# Altium schematic symbol library VHF_AMP_lib.SchLib: 7 symbols
Pins are listed as number, name and electrical type; pins without a type are passive.

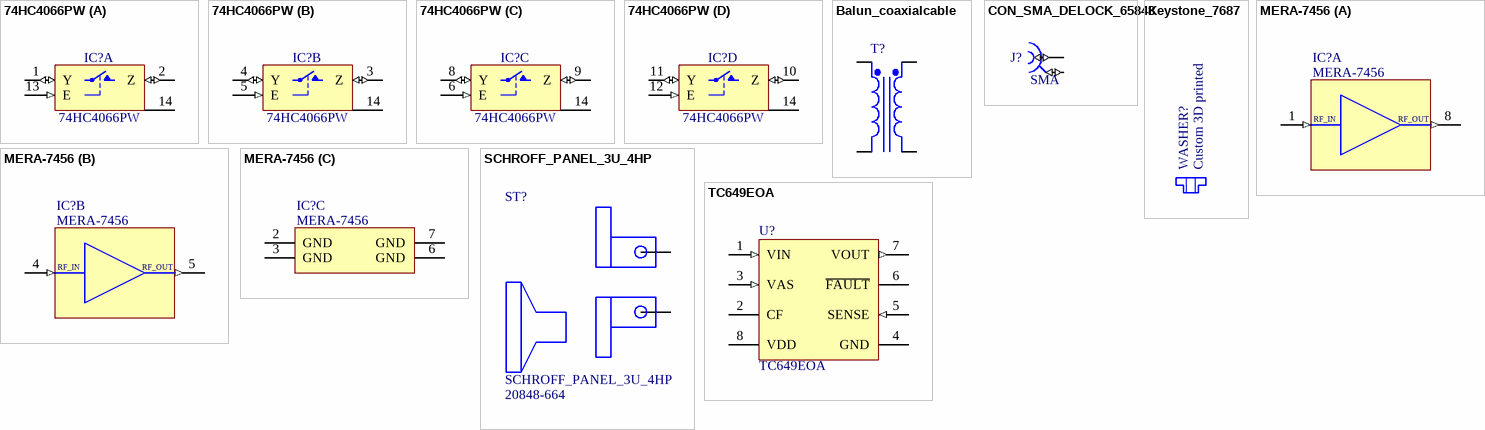
[diagram p0: symbols 74HC4066PW to TC649EOA]

## 74HC4066PW
designator IC?
Part Description: Quad Single-Pole Single-Throw Analog Switch; Manufacturer: NXP SEMICONDUCTORS; PressFit: No; Bonding: No; Part Number: 74HC4066PW; Component Kind: Standard; Component Type: Standard; Device: 74HC4066PW; Footprint: SOP65P640X110-14N; PackageDescription: SOP, 14-Leads, Body 4.4x5mm (max), Pitch 0.65mm, IPC Medium Density; Manufacturer Part Number: 74HC4066PW; Pin Count: 14; Case: TSSOP14; Mounted: Yes; Socket: No; SMD: Yes; Sense: No; ComponentHeight: 1.1mm; Author: CERN DEM JLC; HelpURL: \\cern.ch\dfs\Applications\Altium\Datasheets\74HC4066PW.pdf; CreateDate: 19.11.2014; LatestRevisionDate: 19.11.2014
footprint SOP65P640X110-14N (SOP, 14-Leads, Body 4.4x5mm (max), Pitch 0.65mm, IPC Medium Density)
pins on every part: 7 GND (power) hidden to GND, 14 VCC (power)
part A pins: 1 Y (io), 2 Z (io), 13 E (in)
part B pins: 3 Z (io), 4 Y (io), 5 E (in)
part C pins: 6 E (in), 8 Y (io), 9 Z (io)
part D pins: 10 Z (io), 11 Y (io), 12 E (in)

## Balun_coaxialcable
designator T?, comment Trans Ideal  (value not drawn)
Transformer (Ideal); Published: 8-Jun-2000; LatestRevisionDate: 17-Jul-2002; LatestRevisionNote: Re-released for DXP Platform.; PackageReference: TRF_4; Publisher: Altium Limited; PackageDescription: Transformer; 4 Leads
footprint Balun_5943001101
footprint Balun_5961000601
footprint Balun_5961000601_power
pins: 1 Pri+, 2 Pri-, 3 Sec+, 4 Sec-

## CON_SMA_DELOCK_65848
designator J?, comment SMA
50 Ohm Through Hole SMA Right Angle PCB Jack; Part Number: DELOCK_65848; Manufacturer: DELOCK; Manufacturer Part Number: 5848 (4043619658480); PressFit: No; Component Kind: Standard; Component Type: Standard; Footprint: DELOCK_65848; Pin Count: 5; Family: SMA; Mounted: Yes; Socket: No; SMD: No; Sense: No; Status: None; Part Description: 50 Ohm Through Hole SMA Right Angle PCB Jack; ComponentHeight: 12.5; HelpURL: \\cern.ch\dfs\Applications\Altium\Datasheets\AMPHENOL_132203-16.pdf; Author: GK; CreateDate: 13.05.2019; LatestRevisionDate: 13.05.2019
footprint DELOCK_65848 (50 Ohm Through Hole SMA Right Angle PCB Jack)
pins: 1 (io), 2 (io)

## Keystone_7687
designator WASHER?, comment Custom 3D printed
SMA_Shoulder Washer; Part Description: Polyphenylene Sulfide PPS Shoulder Washer; PressFit: No; Part Number: Custom 3D printed; Component Kind: Standard; Component Type: Mechanical; Footprint: Custom 3D printed; Pin Count: 0; PackageDescription: Polyphenylene Sulfide PPS Shoulder Washer; Mounted: Yes; Socket: No; SMD: No; Sense: No; Status: None; Value: Custom 3D printed; Manufacturer: Custom 3D printed; Manufacturer Part Number: Custom 3D printed; ComponentHeight: 1.91mm; HelpURL: \\cern.ch\dfs\Applications\Altium\Datasheets\AAVID-THERMALLOY_7721-7PPSG.pdf; Author: GK; CreateDate: 28.01.2016; LatestRevisionDate: 28.01.2016
footprint Keystone_7687 (Polyphenylene Sulfide PPS Shoulder Washer)

## MERA-7456
designator IC?
Dual Differential Inputs and  Complementary TTL outputs; Part Description: DC-1GHz, Dual Matched MMIC Amplifier; Manufacturer: MINI-CIRCUITS; PressFit: No; Bonding: No; Part Number: MERA-7456; Component Kind: Standard; Component Type: Standard; Device: MERA-7456; Footprint: MINI-CIRCUITS_DL1020; PackageDescription: SON, 1.27mm Pitch; 8 Pin, 6mm W X 4.9mm L X 0.90mm H body (w/Thermal Tab 2.5 X 3.0mm), IPC Medium Density; Manufacturer Part Number: MERA-7456; Pin Count: 9; Case: SON8; Mounted: Yes; Socket: No; SMD: Yes; Sense: No; ComponentHeight: 0.90mm; Author: CERN DEM HF; HelpURL: \\cern.ch\dfs\Applications\Altium\Datasheets\MERA-7456.pdf; ComponentLink1URL: \\cern.ch\dfs\Applications\Altium\Datasheets\MINI-CIRCUITS_DL1020.pdf; ComponentLink1Description: Package Drawing; CreateDate: 31.05.2023; LatestRevisionDate: 31.05.2023
footprint MINI-CIRCUITS_DL1020 (SON, 1.27mm Pitch; 8 Pin, 6mm W X 4.9mm L X 0.90mm H body (w/Thermal Tab 2.5 X 3.0mm), IPC Medium Density)
part A pins: 1 RF-IN, A1 (in), 8 RF-OUT and DC-IN, A1 (out)
part B pins: 4 RF IN, A2 (in), 5 RF-OUT and DC-IN, A2 (out)
part C pins: 2 GND, 3 GND, 6 GND, 7 GND
1 alternate drawing of the same symbol
part A text: RF_IN; RF_OUT
part B text: RF_IN; RF_OUT

## SCHROFF_PANEL_3U_4HP
designator ST?  Manufacturer Part Number 2: 20848-664
Schroff 3HP 4U EUROCARD Panel Kit; Manufacturer Part Number: 20818-017; Manufacturer: Schroff
footprint SCHROFF_PANEL_3HP_4U (Schroff PCB 3HP 4U Eurocard Panel Kit)
pins: 0, 1

## TC649EOA
designator U?
PWM Fan Speed Controller with Auto-Shutdown and FanSense Technology, 8-Pin SOIC, Industrial Temperature; PackageReference: SOIC-OA8; Code_IPC: SOIC127P600-8; PackageDescription: 8-Lead Plastic Small Outline (OA) - Narrow, 3.90mm Body [SOIC]; DatasheetVersion: revC, Oct-2002; PackageVersion: revBB, Aug-2009
footprint SOIC127P600X175-8N (SOIC 8, Pitch 1.27mm - Body 4x5mm, IPC Medium Density)
pins: 1 VIN (in), 2 CF, 3 VAS (in), 4 GND (power), 5 SENSE (in), 6 ~{FAULT} (oc), 7 VOUT (out), 8 VDD (power)